# EAGLE library part HEF4543 (library SparkFun-paranoidstudio)
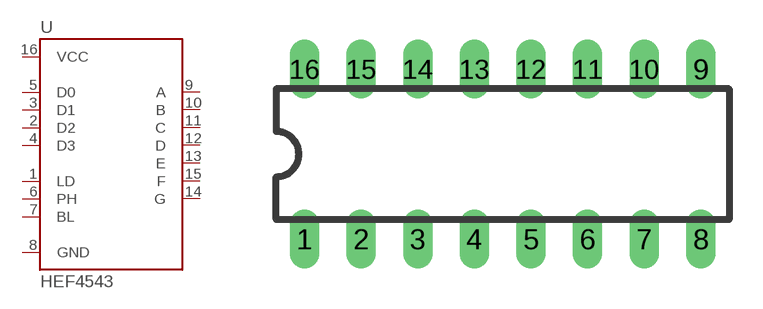
[diagram p186: symbol with the pads of DIL16; footprint DIL16]

Designator prefix -

## HEF4543PTH  [DIL16]
1  LD
2  D2
3  D1
4  D3
5  D0
6  PH
7  BL
8  GND
9  A
10  B
11  C
12  D
13  E
14  G
15  F
16  VCC

## Footprint DIL16 (pad centres in mm)
Dual In Line Package
drill 0.813 long: 1 -8.89,-3.81; 2 -6.35,-3.81; 3 -3.81,-3.81; 4 -1.27,-3.81; 5 1.27,-3.81; 6 3.81,-3.81; 7 6.35,-3.81; 8 8.89,-3.81; 9 8.89,3.81; 10 6.35,3.81; 11 3.81,3.81; 12 1.27,3.81; 13 -1.27,3.81; 14 -3.81,3.81; 15 -6.35,3.81; 16 -8.89,3.81